# Altium schematic symbol library AD654JNZ.SchLib: 1 symbol
Pins are listed as number, name and electrical type; pins without a type are passive.

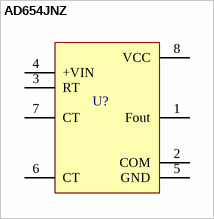
[diagram p0: symbol AD654JNZ]

## AD654JNZ
designator U?
Monolithic Voltage to Ferequncy Convertor By Analog Device
pins: 1 Fout (oc), 2 COM (oc), 3 RT (oc), 4 +VIN (oc), 5 GND (oc), 6 CT (oc), 7 CT (oc), 8 VCC (oc)